# Altium schematic symbol library PCB_Project_1.SCHLIB: 11 symbols
Pins are listed as number, name and electrical type; pins without a type are passive.

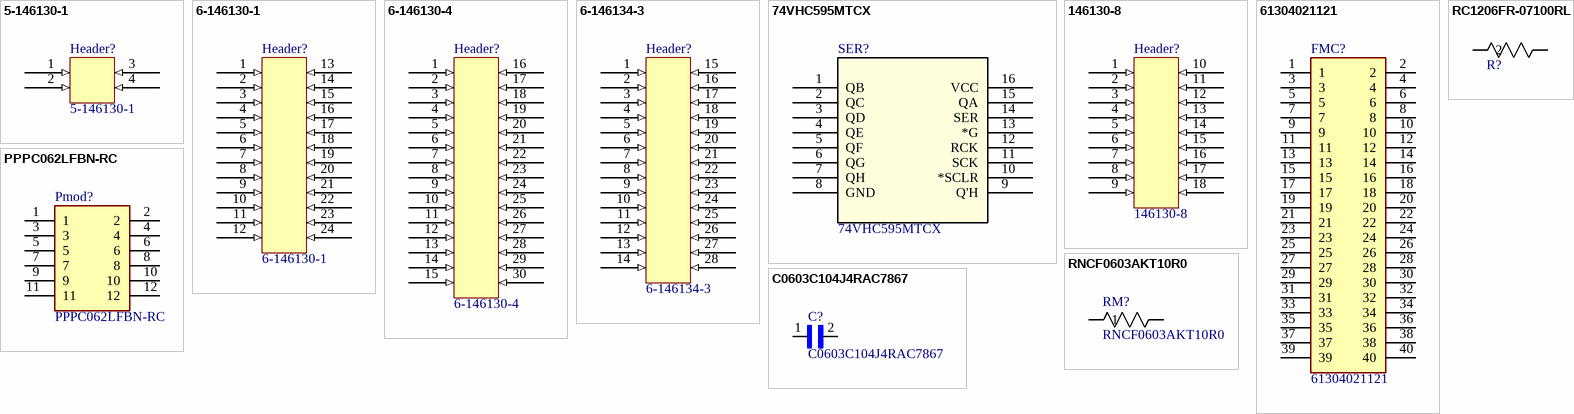
[diagram p0: symbols 5-146130-1 to RNCF0603AKT10R0]

## 5-146130-1
designator Header?
2*2 Header
footprint CONN_5-146130-7_TYCO - duplicate - duplicate - duplicate - duplicate
pins: 1 (in), 2 (in), 3 (in), 4 (in)

## 6-146130-1
designator Header?
2*12 Header
footprint CONN_5-146130-7_TYCO - duplicate
pins: 1 (in), 2 (in), 3 (in), 4 (in), 5 (in), 6 (in), 7 (in), 8 (in), 9 (in), 10 (in), 11 (in), 12 (in), 13 (in), 14 (in), 15 (in), 16 (in), 17 (in), 18 (in), 19 (in), 20 (in), 21 (in), 22 (in), 23 (in), 24 (in)

## 6-146130-4
designator Header?
2*15 Header; Manufacturer: TE Connectivity; Connector Type: BOARD CONNECTOR; Option: General Purpose; Body/Shell Style: PLUG; Filter Feature: No; Number of Rows Loaded: 2; Number of Contacts: 30; Contact Pattern: RECTANGULAR; Contact Style: SQ PIN-SKT; Dielectric Withstanding Voltage (AC): 1.05kV; Number Of Connectors: 1; Rated Current (Signal): 3A; Insulation Resistance: 5GR; Body Breadth: 0.192inch; Body Depth: 0.153inch; Body Length: 1.484inch; Mating Contact Pitch: 0.1inch; Plating Thickness: 30uin; PCB Contact Row Spacing: 5.1562mm; Reference Standard: UL; Reliability: COMMERCIAL; Supplier: Digikey; Supplier Part Number: A107239-ND; Manufacturer Part Number: 6-146130-4; RoHS: Yes; Category: Headers and Wire Housings; Stock: 1324; Pricing: 1=4.9, 14=4.27214, 112=3.95875 (USD); Mounting Technology: Board; Contact Finish - Mating: NOT SPECIFIED; Insulation Color: Black; Insulation Material: Glass; Contact Material: Bronze; Contact Finish - Termination: MATTE TIN OVER NICKEL; Min Operating Temperature: -65°C; Max Operating Temperature: 125°C; Contact Gender: Male; Mixed Contacts: No; Mounting Style: STRAIGHT; Termination: SMD/SMT; JESD-609 Code: e3; Number Of PCB Rows: 2; PCB Contact Pattern: RECTANGULAR; Terminal Pitch: 2.54mm; Mating Contact Row Spacing: 0.1inch; Flammability Rating: UL94 V-0; DIN Conformance: No; IEC Conformance: No; MIL Conformance: No; RoHS Compliant: Yes; Reach SVHC Compliant: Yes; ComponentLink1URL: https://datasheet.ciiva.com:443/pdfs/VipMasterIC/IC/TYEL/TYEL-S-A0008869674/TYEL-S-A0008810119-1.pdf?src-supplier=IHS+Markit; ComponentLink1Description: https://datasheet.ciiva.com:443/pdfs/VipMasterIC/IC/TYEL/TYEL-S-A0008869674/TYEL-S-A0008810119-1.pdf?src-supplier=IHS+Markit; ComponentLink2URL: https://datasheet.ciiva.com/11747/0900766b80db3fb7-11747077.pdf?src-supplier=Rs; ComponentLink2Description: https://datasheet.ciiva.com/11747/0900766b80db3fb7-11747077.pdf?src-supplier=Rs; ComponentLink3URL: https://datasheet.ciiva.com/9467/eng-ds-1307819-ampmodu-0811-9467197.pdf?src-supplier=Avnet; ComponentLink3Description: https://datasheet.ciiva.com/9467/eng-ds-1307819-ampmodu-0811-9467197.pdf?src-supplier=Avnet; ComponentLink4URL: https://datasheet.ciiva.com/30222/eng-ds-1307819-ampmodu-0811-30222783.pdf?src-supplier=Onlinecomponents.com; ComponentLink4Description: https://datasheet.ciiva.com/30222/eng-ds-1307819-ampmodu-0811-30222783.pdf?src-supplier=Onlinecomponents.com
pins: 1 (in), 2 (in), 3 (in), 4 (in), 5 (in), 6 (in), 7 (in), 8 (in), 9 (in), 10 (in), 11 (in), 12 (in), 13 (in), 14 (in), 15 (in), 16 (in), 17 (in), 18 (in), 19 (in), 20 (in), 21 (in), 22 (in), 23 (in), 24 (in), 25 (in), 26 (in), 27 (in), 28 (in), 29 (in), 30 (in)

## 6-146134-3
designator Header?
2*14 Header; Manufacturer: TE Connectivity; Connector Type: BOARD CONNECTOR; Option: General Purpose; Body/Shell Style: RECEPTACLE; Filter Feature: No; Number of Rows Loaded: 2; Number of Contacts: 28; Contact Pattern: RECTANGULAR; Rated Current (Signal): 3A; Contact Style: SQ PIN-SKT; Dielectric Withstanding Voltage (AC): 1.05kV; Insulation Resistance: 5GR; Number Of Connectors: 1; Body Breadth: 0.192inch; Body Depth: 0.153inch; Body Length: 1.384inch; Mating Contact Pitch: 0.1inch; PCB Contact Row Spacing: 5.207mm; Plating Thickness: 200uin; Reference Standard: UL; Reliability: COMMERCIAL; Supplier: Digikey; Supplier Part Number: 6-146134-3-ND; Manufacturer Part Number: 6-146134-3; RoHS: Yes; Category: Headers and Wire Housings; Stock: 892; Pricing: 1=4.63, 15=4.05867, 105=3.63371, 510=3.37869, 1005=3.01744 (USD); Mounting Technology: Board; Contact Finish - Mating: NOT SPECIFIED; Insulation Color: Black; Insulation Material: Glass; Min Operating Temperature: -65°C; Max Operating Temperature: 125°C; Contact Gender: Male; Mixed Contacts: No; Termination: SMD/SMT; Mounting Style: STRAIGHT; Number Of PCB Rows: 2; PCB Contact Pattern: RECTANGULAR; Mating Contact Row Spacing: 0.1inch; Terminal Pitch: 2.54mm; Flammability Rating: UL94 V-0; DIN Conformance: No; IEC Conformance: No; MIL Conformance: No; Reach SVHC Compliant: Yes; RoHS Compliant: Yes; ComponentLink1URL: https://datasheet.ciiva.com:443/pdfs/VipMasterIC/IC/TYEL/TYEL-S-A0008869674/TYEL-S-A0008811148-1.pdf?src-supplier=IHS+Markit; ComponentLink1Description: https://datasheet.ciiva.com:443/pdfs/VipMasterIC/IC/TYEL/TYEL-S-A0008869674/TYEL-S-A0008811148-1.pdf?src-supplier=IHS+Markit; ComponentLink2URL: https://datasheet.ciiva.com/734/eng-cd-146134-n4-146134-c-dwg-734612.pdf?src-supplier=Digikey; ComponentLink2Description: https://datasheet.ciiva.com/734/eng-cd-146134-n4-146134-c-dwg-734612.pdf?src-supplier=Digikey
pins: 1 (in), 2 (in), 3 (in), 4 (in), 5 (in), 6 (in), 7 (in), 8 (in), 9 (in), 10 (in), 11 (in), 12 (in), 13 (in), 14 (in), 15 (in), 16 (in), 17 (in), 18 (in), 19 (in), 20 (in), 21 (in), 22 (in), 23 (in), 24 (in), 25 (in), 26 (in), 27 (in), 28 (in)

## 74VHC595MTCX
designator SER?
No Description Available; Mfr_Name: onsemi; Copyright: Copyright (C) 2022 Ultra Librarian. All rights reserved.; Manufacturer_Part_Number: 74VHC595MTCX; Digi-Key_Part_Number_1: 74VHC595MTCXTR-ND; Digi-Key_Part_Number_2: 74VHC595MTCXCT-ND; Digi-Key_Part_Number_3: 74VHC595MTCXDKR-ND; RefDes: RefDes; Type: DEV
footprint TSSOP16_5X4P5_ONS
pins: 1 QB, 2 QC, 3 QD, 4 QE, 5 QF, 6 QG, 7 QH, 8 GND, 9 Q'H, 10 *SCLR, 11 SCK, 12 RCK, 13 *G, 14 SER, 15 QA, 16 VCC (power)

## 146130-8
designator Header?
2*9 Header
footprint CONN_5-146130-7_TYCO - duplicate - duplicate
pins: 1 (in), 2 (in), 3 (in), 4 (in), 5 (in), 6 (in), 7 (in), 8 (in), 9 (in), 10 (in), 11 (in), 12 (in), 13 (in), 14 (in), 15 (in), 16 (in), 17 (in), 18 (in)

## 61304021121
designator FMC?
Connector; Manufacturer_Name: Wurth Elektronik; Datasheet Link: https://katalog.we-online.com/em/datasheet/6130xx21121.pdf; Height: 8.69mm; Manufacturer_Part_Number: 61304021121; Mouser Part Number: 710-61304021121; Mouser Price/Stock: https://www.mouser.co.uk/ProductDetail/Wurth-Elektronik/61304021121?qs=PhR8RmCirEYWKI5WqdDUyg%3D%3D
footprint HDRV40W64P254X254_2X20_5080X508X869P
pins: 1, 2, 3, 4, 5, 6, 7, 8, 9, 10, 11, 12, 13, 14, 15, 16, 17, 18, 19, 20, 21, 22, 23, 24, 25, 26, 27, 28, 29, 30, 31, 32, 33, 34, 35, 36, 37, 38, 39, 40

## C0603C104J4RAC7867
designator C?
Cap Ceramic 0.1uF 16V X7R 5% SMD 1.6 x 0.8 mm 125 C Paper T/R; MF: KEMET; Price: None; Availability: In Stock; Value: *; MP: C0603C104J4RAC7867; Check_prices: https://www.snapeda.com/parts/C0603C104J4RAC7867/KEMET/view-part/?ref=eda; Purchase-URL: https://pricing.snapeda.com/search/part/C0603C104J4RAC7867/?ref=eda; SnapEDA_Link: https://www.snapeda.com/parts/C0603C104J4RAC7867/KEMET/view-part/?ref=snap; Package: 0603 KEMET
footprint CAPC1608X90N
pins: 1, 2

## PPPC062LFBN-RC
designator Pmod?
Connector; Manufacturer_Name: Sullins; Datasheet Link: https://drawings-pdf.s3.amazonaws.com/10492.pdf; Height: 8.5mm; Manufacturer_Part_Number: PPPC062LFBN-RC
footprint RHDR12W80P254_2X6_1574X508X850P
pins: 1, 2, 3, 4, 5, 6, 7, 8, 9, 10, 11, 12

## RC1206FR-07100RL
designator R?  (value not drawn)
100ohm; Mfr_Name: Yageo; Copyright: Copyright (C) 2022 Ultra Librarian. All rights reserved.; Manufacturer_Part_Number: RC1206FR-07100RL; Digi-Key_Part_Number_1: 311-100FRCT-ND; Digi-Key_Part_Number_2: 311-100FRDKR-ND; Digi-Key_Part_Number_3: 311-100FRTR-ND; Digi-Key_Part_Number_4: 311-100FRTR-NDL; RefDes: RefDes; Type: DEV
footprint RC1206N_YAG
pins: 1, 2

## RNCF0603AKT10R0
designator RM?
10Ohm; Mfr_Name: Stackpole International; Copyright: Copyright (C) 2023 Ultra Librarian. All rights reserved.; Manufacturer_Part_Number: RNCF0603AKT10R0; RefDes: RefDes; Type: DEV
footprint RES_RNCF0603_STP
pins: 1, 2